# EAGLE library part WM8962BECSN_R (library WM8962BECSN_R)
Interface - CODECs Stereo CODEC with Audio Enhancement Source: Datasheet <https://d3uzseaevmutz1.cloudfront.net/pubs/proDatasheet/WM8962B_v4.2.pdf>
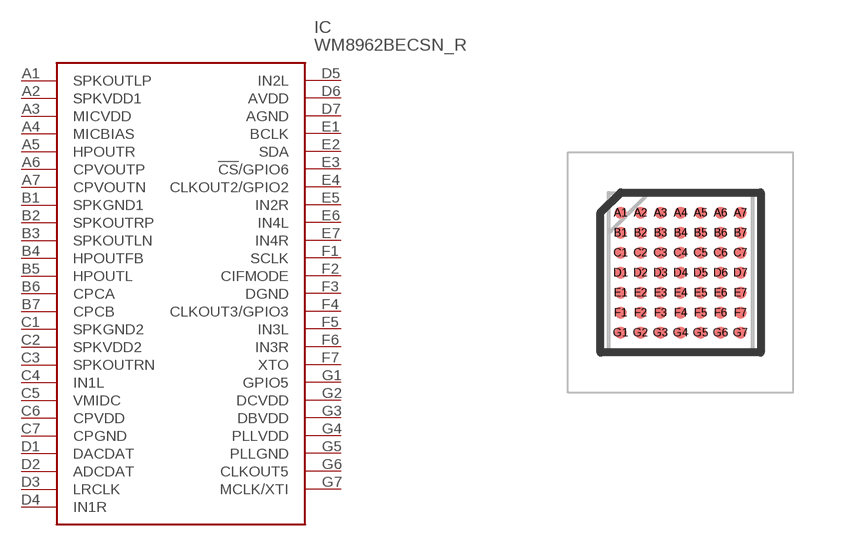
[diagram p0: symbol with the pads of BGA49C50P7X7_359X398X75; footprint BGA49C50P7X7_359X398X75]

Designator prefix IC

## WM8962BECSN_R (Description: Interface - CODECs Stereo CODEC with Audio Enhancement; Height: 0.75mm; Manufacturer_Name: Cirrus Logic; Manufacturer_Part_Number: WM8962BECSN/R; Mouser_Part_Number: 238-WM8962BECSN/R; Mouser_Price-Stock: https://www.mouser.co.uk/ProductDetail/Cirrus-Logic/WM8962BECSN-R?qs=3kEcuH7qFheYlZ%252BQusC%2FLw%3D%3D)  [BGA49C50P7X7_359X398X75]
A1  SPKOUTLP
A2  SPKVDD1
A3  MICVDD
A4  MICBIAS
A5  HPOUTR
A6  CPVOUTP
A7  CPVOUTN
B1  SPKGND1
B2  SPKOUTRP
B3  SPKOUTLN
B4  HPOUTFB
B5  HPOUTL
B6  CPCA
B7  CPCB
C1  SPKGND2
C2  SPKVDD2
C3  SPKOUTRN
C4  IN1L
C5  VMIDC
C6  CPVDD
C7  CPGND
D1  DACDAT
D2  ADCDAT
D3  LRCLK
D4  IN1R
D5  IN2L
D6  AVDD
D7  AGND
E1  BCLK
E2  SDA
E3  !CS!/GPIO6
E4  CLKOUT2/GPIO2
E5  IN2R
E6  IN4L
E7  IN4R
F1  SCLK
F2  CIFMODE
F3  DGND
F4  CLKOUT3/GPIO3
F5  IN3L
F6  IN3R
F7  XTO
G1  GPIO5
G2  DCVDD
G3  DBVDD
G4  PLLVDD
G5  PLLGND
G6  CLKOUT5
G7  MCLK/XTI

## Footprint BGA49C50P7X7_359X398X75 (pad centres in mm)
: 49 BALL W-CSP PACKAGE 3.594 X 3.984 X 0.7mm BODY, 0.50 mm BALL PITCH
smd 0.301 x 0.301: A1 -1.5,1.5; A2 -1,1.5; A3 -0.5,1.5; A4 0,1.5; A5 0.5,1.5; A6 1,1.5; A7 1.5,1.5; B1 -1.5,1; B2 -1,1; B3 -0.5,1; B4 0,1; B5 0.5,1; B6 1,1; B7 1.5,1; C1 -1.5,0.5; C2 -1,0.5; C3 -0.5,0.5; C4 0,0.5; C5 0.5,0.5; C6 1,0.5; C7 1.5,0.5; D1 -1.5,0; D2 -1,0; D3 -0.5,0; D4 0,0; D5 0.5,0; D6 1,0; D7 1.5,0; E1 -1.5,-0.5; E2 -1,-0.5; E3 -0.5,-0.5; E4 0,-0.5; E5 0.5,-0.5; E6 1,-0.5; E7 1.5,-0.5; F1 -1.5,-1; F2 -1,-1; F3 -0.5,-1; F4 0,-1; F5 0.5,-1; F6 1,-1; F7 1.5,-1; G1 -1.5,-1.5; G2 -1,-1.5; G3 -0.5,-1.5; G4 0,-1.5; G5 0.5,-1.5; G6 1,-1.5; G7 1.5,-1.5